# Altium schematic symbol library TPS71718DCK.SchLib: 2 symbols
Pins are listed as number, name and electrical type; pins without a type are passive.

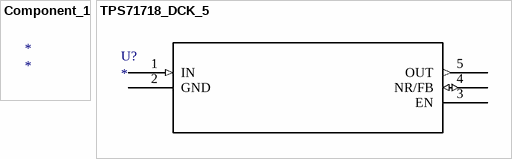
[diagram p0: symbols Component_1 to TPS71718_DCK_5]

## Component_1
designator *

## TPS71718_DCK_5
designator U?
Imported; Manufacturer_Part_Number: tps71718_dck_5; GENERIC_PART_NUMBER: TPS71718; Vendor: Texas Instruments; PACKAGE_DESIGNATOR: DCK; PIN_COUNT: 5; FAMILY_NAME: SINGLE CHANNEL LDO; INDUSTRY_STD_PKG_TYPE: SC70; Datasheet URL: http://www.ti.com/lit/gpn/TPS71718; Manufacturer: Texas Instruments; RefDes: RefDes; Type: DEV; Value: Value
footprint DCK5
pins: 1 IN (in), 2 GND (power), 3 EN, 4 NR/FB (io), 5 OUT (out)